# EAGLE library part ICE40HX8K-CT256 (library Lattice)
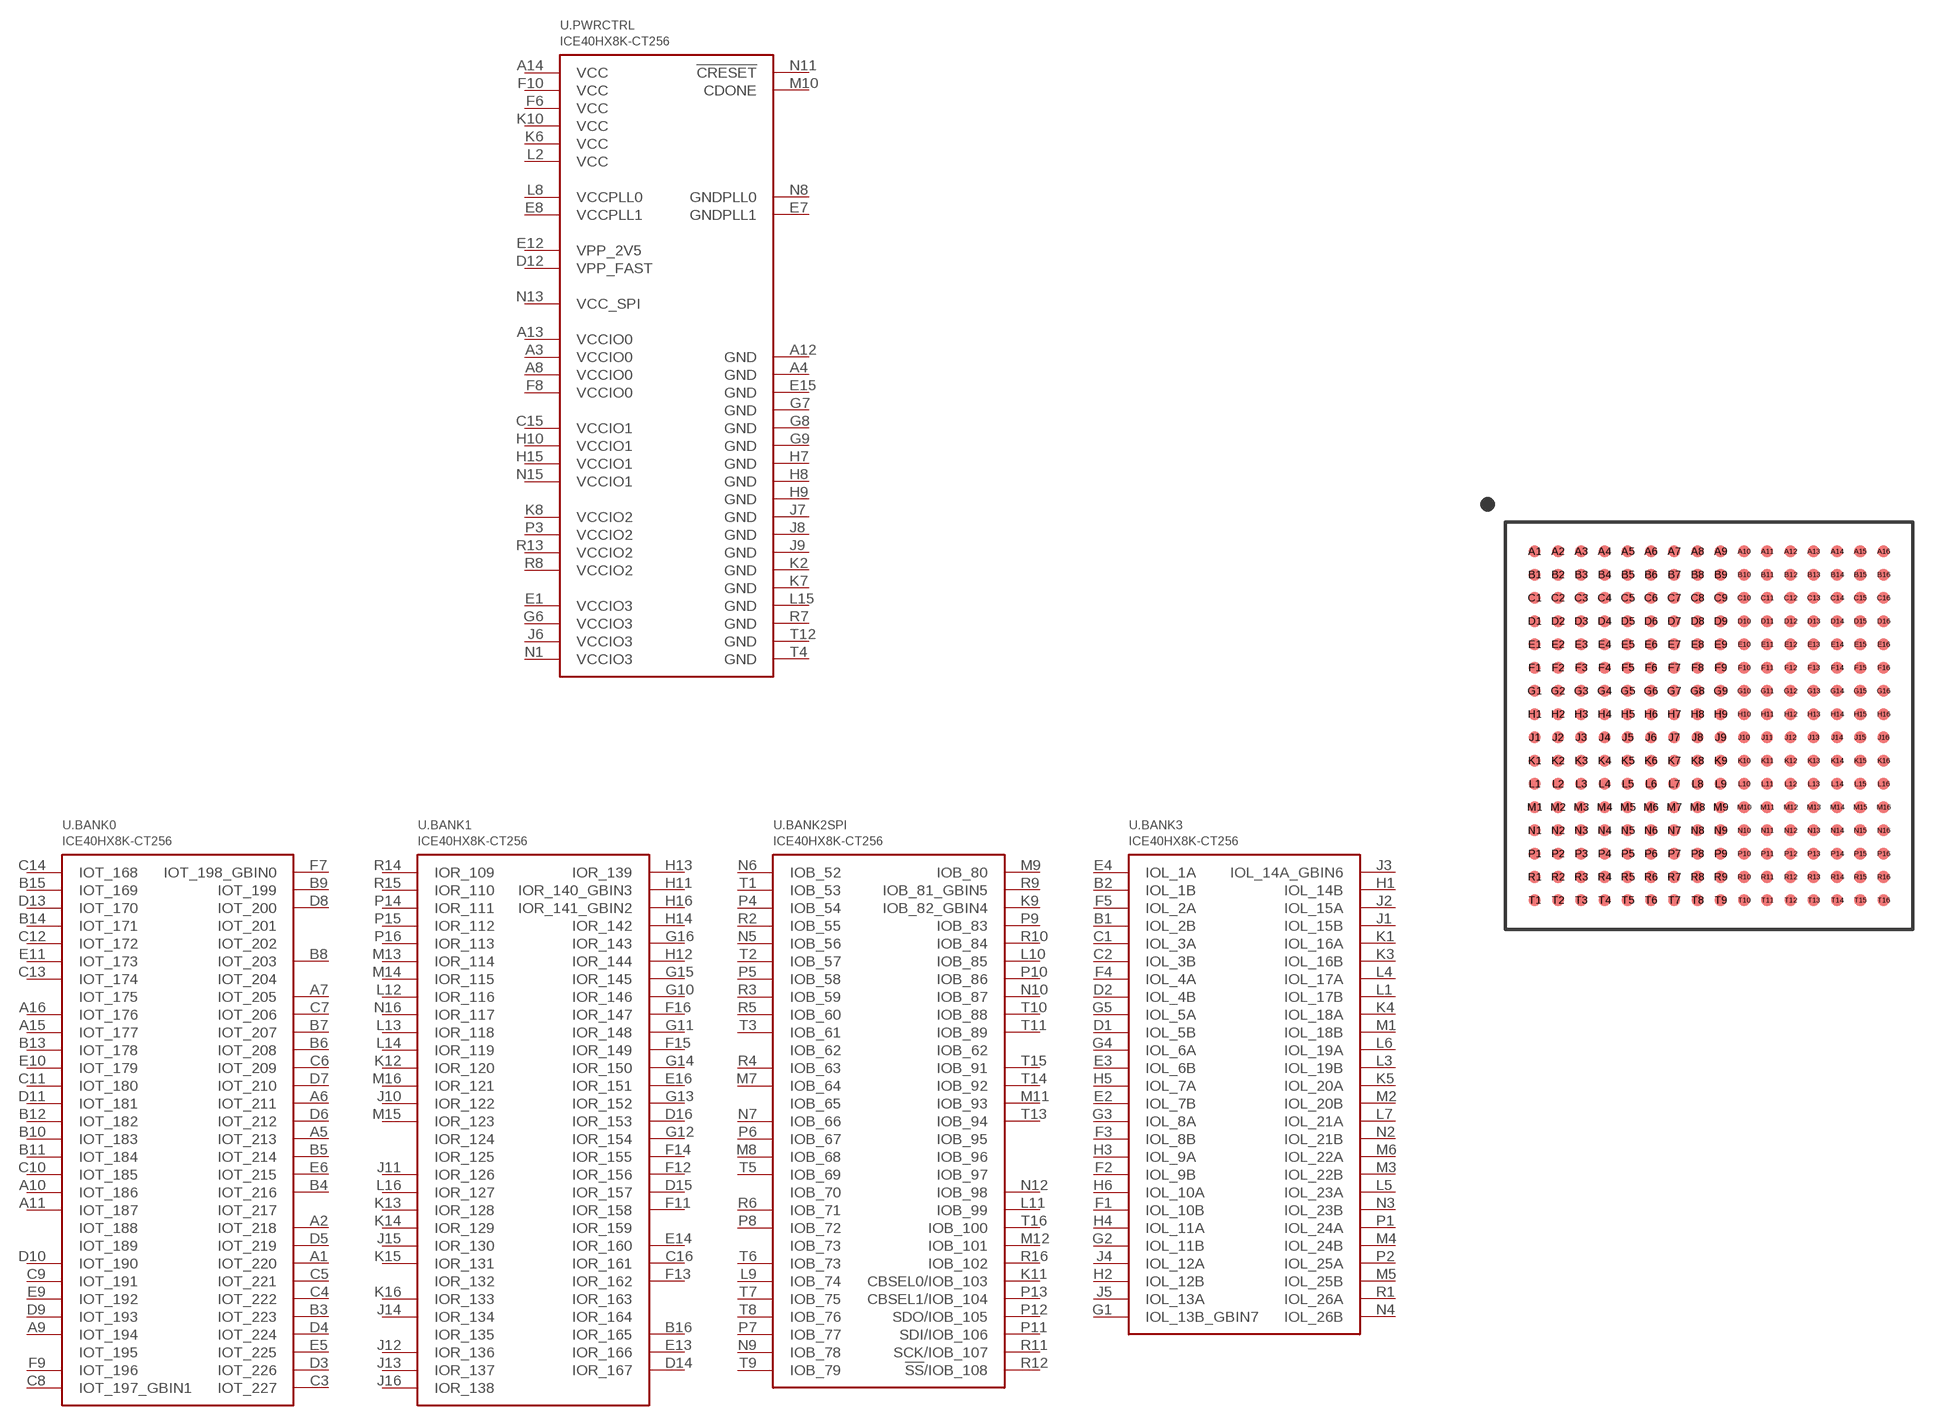
[diagram p0: symbol with the pads of CABGA256; footprint CABGA256]

Designator prefix U; gates .PWRCTRL=ICE40HX8K-CT256-PWRCTRL .BANK0=ICE40HX8K-CT256-BANK0 .BANK1=ICE40HX8K-CT256-BANK1 .BANK2SPI=ICE40HX8K-CT256-BANK2SPI .BANK3=ICE40HX8K-CT256-BANK3

## ICE40HX8K-CT256  [CABGA256]
A1  .BANK0:IOT_220
A2  .BANK0:IOT_218
A3  .PWRCTRL:VCCIO0  pwr
A4  .PWRCTRL:GND  pwr
A5  .BANK0:IOT_213
A6  .BANK0:IOT_211
A7  .BANK0:IOT_205
A8  .PWRCTRL:VCCIO0  pwr
A9  .BANK0:IOT_194
A10  .BANK0:IOT_186
A11  .BANK0:IOT_187
A12  .PWRCTRL:GND  pwr
A13  .PWRCTRL:VCCIO0  pwr
A14  .PWRCTRL:VCC  pwr
A15  .BANK0:IOT_177
A16  .BANK0:IOT_176
B1  .BANK3:IOL_2B
B2  .BANK3:IOL_1B
B3  .BANK0:IOT_223
B4  .BANK0:IOT_216
B5  .BANK0:IOT_214
B6  .BANK0:IOT_208
B7  .BANK0:IOT_207
B8  .BANK0:IOT_203
B9  .BANK0:IOT_199
B10  .BANK0:IOT_183
B11  .BANK0:IOT_184
B12  .BANK0:IOT_182
B13  .BANK0:IOT_178
B14  .BANK0:IOT_171
B15  .BANK0:IOT_169
B16  .BANK1:IOR_165
C1  .BANK3:IOL_3A
C2  .BANK3:IOL_3B
C3  .BANK0:IOT_227
C4  .BANK0:IOT_222
C5  .BANK0:IOT_221
C6  .BANK0:IOT_209
C7  .BANK0:IOT_206
C8  .BANK0:IOT_197_GBIN1
C9  .BANK0:IOT_191
C10  .BANK0:IOT_185
C11  .BANK0:IOT_180
C12  .BANK0:IOT_172
C13  .BANK0:IOT_174
C14  .BANK0:IOT_168
C15  .PWRCTRL:VCCIO1  pwr
C16  .BANK1:IOR_161
D1  .BANK3:IOL_5B
D2  .BANK3:IOL_4B
D3  .BANK0:IOT_226
D4  .BANK0:IOT_224
D5  .BANK0:IOT_219
D6  .BANK0:IOT_212
D7  .BANK0:IOT_210
D8  .BANK0:IOT_200
D9  .BANK0:IOT_193
D10  .BANK0:IOT_190
D11  .BANK0:IOT_181
D12  .PWRCTRL:VPP_FAST  pwr
D13  .BANK0:IOT_170
D14  .BANK1:IOR_167
D15  .BANK1:IOR_157
D16  .BANK1:IOR_153
E1  .PWRCTRL:VCCIO3  pwr
E2  .BANK3:IOL_7B
E3  .BANK3:IOL_6B
E4  .BANK3:IOL_1A
E5  .BANK0:IOT_225
E6  .BANK0:IOT_215
E7  .PWRCTRL:GNDPLL1  pwr
E8  .PWRCTRL:VCCPLL1  pwr
E9  .BANK0:IOT_192
E10  .BANK0:IOT_179
E11  .BANK0:IOT_173
E12  .PWRCTRL:VPP_2V5  pwr
E13  .BANK1:IOR_166
E14  .BANK1:IOR_160
E15  .PWRCTRL:GND  pwr
E16  .BANK1:IOR_151
F1  .BANK3:IOL_10B
F2  .BANK3:IOL_9B
F3  .BANK3:IOL_8B
F4  .BANK3:IOL_4A
F5  .BANK3:IOL_2A
F6  .PWRCTRL:VCC  pwr
F7  .BANK0:IOT_198_GBIN0
F8  .PWRCTRL:VCCIO0  pwr
F9  .BANK0:IOT_196
F10  .PWRCTRL:VCC  pwr
F11  .BANK1:IOR_158
F12  .BANK1:IOR_156
F13  .BANK1:IOR_162
F14  .BANK1:IOR_155
F15  .BANK1:IOR_149
F16  .BANK1:IOR_147
G1  .BANK3:IOL_13B_GBIN7
G2  .BANK3:IOL_11B
G3  .BANK3:IOL_8A
G4  .BANK3:IOL_6A
G5  .BANK3:IOL_5A
G6  .PWRCTRL:VCCIO3  pwr
G7  .PWRCTRL:GND  pwr
G8  .PWRCTRL:GND  pwr
G9  .PWRCTRL:GND  pwr
G10  .BANK1:IOR_146
G11  .BANK1:IOR_148
G12  .BANK1:IOR_154
G13  .BANK1:IOR_152
G14  .BANK1:IOR_150
G15  .BANK1:IOR_145
G16  .BANK1:IOR_143
H1  .BANK3:IOL_14B
H2  .BANK3:IOL_12B
H3  .BANK3:IOL_9A
H4  .BANK3:IOL_11A
H5  .BANK3:IOL_7A
H6  .BANK3:IOL_10A
H7  .PWRCTRL:GND  pwr
H8  .PWRCTRL:GND  pwr
H9  .PWRCTRL:GND  pwr
H10  .PWRCTRL:VCCIO1  pwr
H11  .BANK1:IOR_140_GBIN3
H12  .BANK1:IOR_144
H13  .BANK1:IOR_139
H14  .BANK1:IOR_142
H15  .PWRCTRL:VCCIO1  pwr
H16  .BANK1:IOR_141_GBIN2
J1  .BANK3:IOL_15B
J2  .BANK3:IOL_15A
J3  .BANK3:IOL_14A_GBIN6
J4  .BANK3:IOL_12A
J5  .BANK3:IOL_13A
J6  .PWRCTRL:VCCIO3  pwr
J7  .PWRCTRL:GND  pwr
J8  .PWRCTRL:GND  pwr
J9  .PWRCTRL:GND  pwr
J10  .BANK1:IOR_122
J11  .BANK1:IOR_126
J12  .BANK1:IOR_136
J13  .BANK1:IOR_137
J14  .BANK1:IOR_134
J15  .BANK1:IOR_130
J16  .BANK1:IOR_138
K1  .BANK3:IOL_16A
K2  .PWRCTRL:GND  pwr
K3  .BANK3:IOL_16B
K4  .BANK3:IOL_18A
K5  .BANK3:IOL_20A
K6  .PWRCTRL:VCC  pwr
K7  .PWRCTRL:GND  pwr
K8  .PWRCTRL:VCCIO2  pwr
K9  .BANK2SPI:IOB_82_GBIN4
K10  .PWRCTRL:VCC  pwr
K11  .BANK2SPI:CBSEL0/IOB_103
K12  .BANK1:IOR_120
K13  .BANK1:IOR_128
K14  .BANK1:IOR_129
K15  .BANK1:IOR_131
K16  .BANK1:IOR_133
L1  .BANK3:IOL_17B
L2  .PWRCTRL:VCC  pwr
L3  .BANK3:IOL_19B
L4  .BANK3:IOL_17A
L5  .BANK3:IOL_23A
L6  .BANK3:IOL_19A
L7  .BANK3:IOL_21A
L8  .PWRCTRL:VCCPLL0  pwr
L9  .BANK2SPI:IOB_74
L10  .BANK2SPI:IOB_85
L11  .BANK2SPI:IOB_99
L12  .BANK1:IOR_116
L13  .BANK1:IOR_118
L14  .BANK1:IOR_119
L15  .PWRCTRL:GND  pwr
L16  .BANK1:IOR_127
M1  .BANK3:IOL_18B
M2  .BANK3:IOL_20B
M3  .BANK3:IOL_22B
M4  .BANK3:IOL_24B
M5  .BANK3:IOL_25B
M6  .BANK3:IOL_22A
M7  .BANK2SPI:IOB_64
M8  .BANK2SPI:IOB_68
M9  .BANK2SPI:IOB_80
M10  .PWRCTRL:CDONE  pas
M11  .BANK2SPI:IOB_93
M12  .BANK2SPI:IOB_101
M13  .BANK1:IOR_114
M14  .BANK1:IOR_115
M15  .BANK1:IOR_123
M16  .BANK1:IOR_121
N1  .PWRCTRL:VCCIO3  pwr
N2  .BANK3:IOL_21B
N3  .BANK3:IOL_23B
N4  .BANK3:IOL_26B
N5  .BANK2SPI:IOB_56
N6  .BANK2SPI:IOB_52
N7  .BANK2SPI:IOB_66
N8  .PWRCTRL:GNDPLL0  pwr
N9  .BANK2SPI:IOB_78
N10  .BANK2SPI:IOB_87
N11  .PWRCTRL:!CRESET  pas
N12  .BANK2SPI:IOB_98
N13  .PWRCTRL:VCC_SPI  pwr
N15  .PWRCTRL:VCCIO1  pwr
N16  .BANK1:IOR_117
P1  .BANK3:IOL_24A
P2  .BANK3:IOL_25A
P3  .PWRCTRL:VCCIO2  pwr
P4  .BANK2SPI:IOB_54
P5  .BANK2SPI:IOB_58
P6  .BANK2SPI:IOB_67
P7  .BANK2SPI:IOB_77
P8  .BANK2SPI:IOB_72
P9  .BANK2SPI:IOB_83
P10  .BANK2SPI:IOB_86
P11  .BANK2SPI:SDI/IOB_106
P12  .BANK2SPI:SDO/IOB_105
P13  .BANK2SPI:CBSEL1/IOB_104
P14  .BANK1:IOR_111
P15  .BANK1:IOR_112
P16  .BANK1:IOR_113
R1  .BANK3:IOL_26A
R2  .BANK2SPI:IOB_55
R3  .BANK2SPI:IOB_59
R4  .BANK2SPI:IOB_63
R5  .BANK2SPI:IOB_60
R6  .BANK2SPI:IOB_71
R7  .PWRCTRL:GND  pwr
R8  .PWRCTRL:VCCIO2  pwr
R9  .BANK2SPI:IOB_81_GBIN5
R10  .BANK2SPI:IOB_84
R11  .BANK2SPI:SCK/IOB_107
R12  .BANK2SPI:!SS!/IOB_108
R13  .PWRCTRL:VCCIO2  pwr
R14  .BANK1:IOR_109
R15  .BANK1:IOR_110
R16  .BANK2SPI:IOB_102
T1  .BANK2SPI:IOB_53
T2  .BANK2SPI:IOB_57
T3  .BANK2SPI:IOB_61
T4  .PWRCTRL:GND  pwr
T5  .BANK2SPI:IOB_69
T6  .BANK2SPI:IOB_73
T7  .BANK2SPI:IOB_75
T8  .BANK2SPI:IOB_76
T9  .BANK2SPI:IOB_79
T10  .BANK2SPI:IOB_88
T11  .BANK2SPI:IOB_89
T12  .PWRCTRL:GND  pwr
T13  .BANK2SPI:IOB_94
T14  .BANK2SPI:IOB_92
T15  .BANK2SPI:IOB_91
T16  .BANK2SPI:IOB_100

## Footprint CABGA256 (pad centres in mm)
smd 0.406 x 0.406: A1 -6,6; A2 -5.2,6; A3 -4.4,6; A4 -3.6,6; A5 -2.8,6; A6 -2,6; A7 -1.2,6; A8 -0.4,6; A9 0.4,6; A10 1.2,6; A11 2,6; A12 2.8,6; A13 3.6,6; A14 4.4,6; A15 5.2,6; A16 6,6; B1 -6,5.2; B2 -5.2,5.2; B3 -4.4,5.2; B4 -3.6,5.2; B5 -2.8,5.2; B6 -2,5.2; B7 -1.2,5.2; B8 -0.4,5.2; B9 0.4,5.2; B10 1.2,5.2; B11 2,5.2; B12 2.8,5.2; B13 3.6,5.2; B14 4.4,5.2; B15 5.2,5.2; B16 6,5.2; C1 -6,4.4; C2 -5.2,4.4; C3 -4.4,4.4; C4 -3.6,4.4; C5 -2.8,4.4; C6 -2,4.4; C7 -1.2,4.4; C8 -0.4,4.4; C9 0.4,4.4; C10 1.2,4.4; C11 2,4.4; C12 2.8,4.4; C13 3.6,4.4; C14 4.4,4.4; C15 5.2,4.4; C16 6,4.4; D1 -6,3.6; D2 -5.2,3.6; D3 -4.4,3.6; D4 -3.6,3.6; D5 -2.8,3.6; D6 -2,3.6; D7 -1.2,3.6; D8 -0.4,3.6; D9 0.4,3.6; D10 1.2,3.6; D11 2,3.6; D12 2.8,3.6; D13 3.6,3.6; D14 4.4,3.6; D15 5.2,3.6; D16 6,3.6; E1 -6,2.8; E2 -5.2,2.8; E3 -4.4,2.8; E4 -3.6,2.8; E5 -2.8,2.8; E6 -2,2.8; E7 -1.2,2.8; E8 -0.4,2.8; E9 0.4,2.8; E10 1.2,2.8; E11 2,2.8; E12 2.8,2.8; E13 3.6,2.8; E14 4.4,2.8; E15 5.2,2.8; E16 6,2.8; F1 -6,2; F2 -5.2,2; F3 -4.4,2; F4 -3.6,2; F5 -2.8,2; F6 -2,2; F7 -1.2,2; F8 -0.4,2; F9 0.4,2; F10 1.2,2; F11 2,2; F12 2.8,2; F13 3.6,2; F14 4.4,2; F15 5.2,2; F16 6,2; G1 -6,1.2; G2 -5.2,1.2; G3 -4.4,1.2; G4 -3.6,1.2; G5 -2.8,1.2; G6 -2,1.2; G7 -1.2,1.2; G8 -0.4,1.2; G9 0.4,1.2; G10 1.2,1.2; G11 2,1.2; G12 2.8,1.2; G13 3.6,1.2; G14 4.4,1.2; G15 5.2,1.2; G16 6,1.2; H1 -6,0.4; H2 -5.2,0.4; H3 -4.4,0.4; H4 -3.6,0.4; H5 -2.8,0.4; H6 -2,0.4; H7 -1.2,0.4; H8 -0.4,0.4; H9 0.4,0.4; H10 1.2,0.4; H11 2,0.4; H12 2.8,0.4; H13 3.6,0.4; H14 4.4,0.4; H15 5.2,0.4; H16 6,0.4; J1 -6,-0.4; J2 -5.2,-0.4; J3 -4.4,-0.4; J4 -3.6,-0.4; J5 -2.8,-0.4; J6 -2,-0.4; J7 -1.2,-0.4; J8 -0.4,-0.4; J9 0.4,-0.4; J10 1.2,-0.4; J11 2,-0.4; J12 2.8,-0.4; J13 3.6,-0.4; J14 4.4,-0.4; J15 5.2,-0.4; J16 6,-0.4; K1 -6,-1.2; K2 -5.2,-1.2; K3 -4.4,-1.2; K4 -3.6,-1.2; K5 -2.8,-1.2; K6 -2,-1.2; K7 -1.2,-1.2; K8 -0.4,-1.2; K9 0.4,-1.2; K10 1.2,-1.2; K11 2,-1.2; K12 2.8,-1.2; K13 3.6,-1.2; K14 4.4,-1.2; K15 5.2,-1.2; K16 6,-1.2; L1 -6,-2; L2 -5.2,-2; L3 -4.4,-2; L4 -3.6,-2; L5 -2.8,-2; L6 -2,-2; L7 -1.2,-2; L8 -0.4,-2; L9 0.4,-2; L10 1.2,-2; L11 2,-2; L12 2.8,-2; L13 3.6,-2; L14 4.4,-2; L15 5.2,-2; L16 6,-2; M1 -6,-2.8; M2 -5.2,-2.8; M3 -4.4,-2.8; M4 -3.6,-2.8; M5 -2.8,-2.8; M6 -2,-2.8; M7 -1.2,-2.8; M8 -0.4,-2.8; M9 0.4,-2.8; M10 1.2,-2.8; M11 2,-2.8; M12 2.8,-2.8; M13 3.6,-2.8; M14 4.4,-2.8; M15 5.2,-2.8; M16 6,-2.8; N1 -6,-3.6; N2 -5.2,-3.6; N3 -4.4,-3.6; N4 -3.6,-3.6; N5 -2.8,-3.6; N6 -2,-3.6; N7 -1.2,-3.6; N8 -0.4,-3.6; N9 0.4,-3.6; N10 1.2,-3.6; N11 2,-3.6; N12 2.8,-3.6; N13 3.6,-3.6; N14 4.4,-3.6; N15 5.2,-3.6; N16 6,-3.6; P1 -6,-4.4; P2 -5.2,-4.4; P3 -4.4,-4.4; P4 -3.6,-4.4; P5 -2.8,-4.4; P6 -2,-4.4; P7 -1.2,-4.4; P8 -0.4,-4.4; P9 0.4,-4.4; P10 1.2,-4.4; P11 2,-4.4; P12 2.8,-4.4; P13 3.6,-4.4; P14 4.4,-4.4; P15 5.2,-4.4; P16 6,-4.4; R1 -6,-5.2; R2 -5.2,-5.2; R3 -4.4,-5.2; R4 -3.6,-5.2; R5 -2.8,-5.2; R6 -2,-5.2; R7 -1.2,-5.2; R8 -0.4,-5.2; R9 0.4,-5.2; R10 1.2,-5.2; R11 2,-5.2; R12 2.8,-5.2; R13 3.6,-5.2; R14 4.4,-5.2; R15 5.2,-5.2; R16 6,-5.2; T1 -6,-6; T2 -5.2,-6; T3 -4.4,-6; T4 -3.6,-6; T5 -2.8,-6; T6 -2,-6; T7 -1.2,-6; T8 -0.4,-6; T9 0.4,-6; T10 1.2,-6; T11 2,-6; T12 2.8,-6; T13 3.6,-6; T14 4.4,-6; T15 5.2,-6; T16 6,-6